# Altium schematic symbol library EVB_M1.SCHLIB: 7 symbols
Pins are listed as number, name and electrical type; pins without a type are passive.

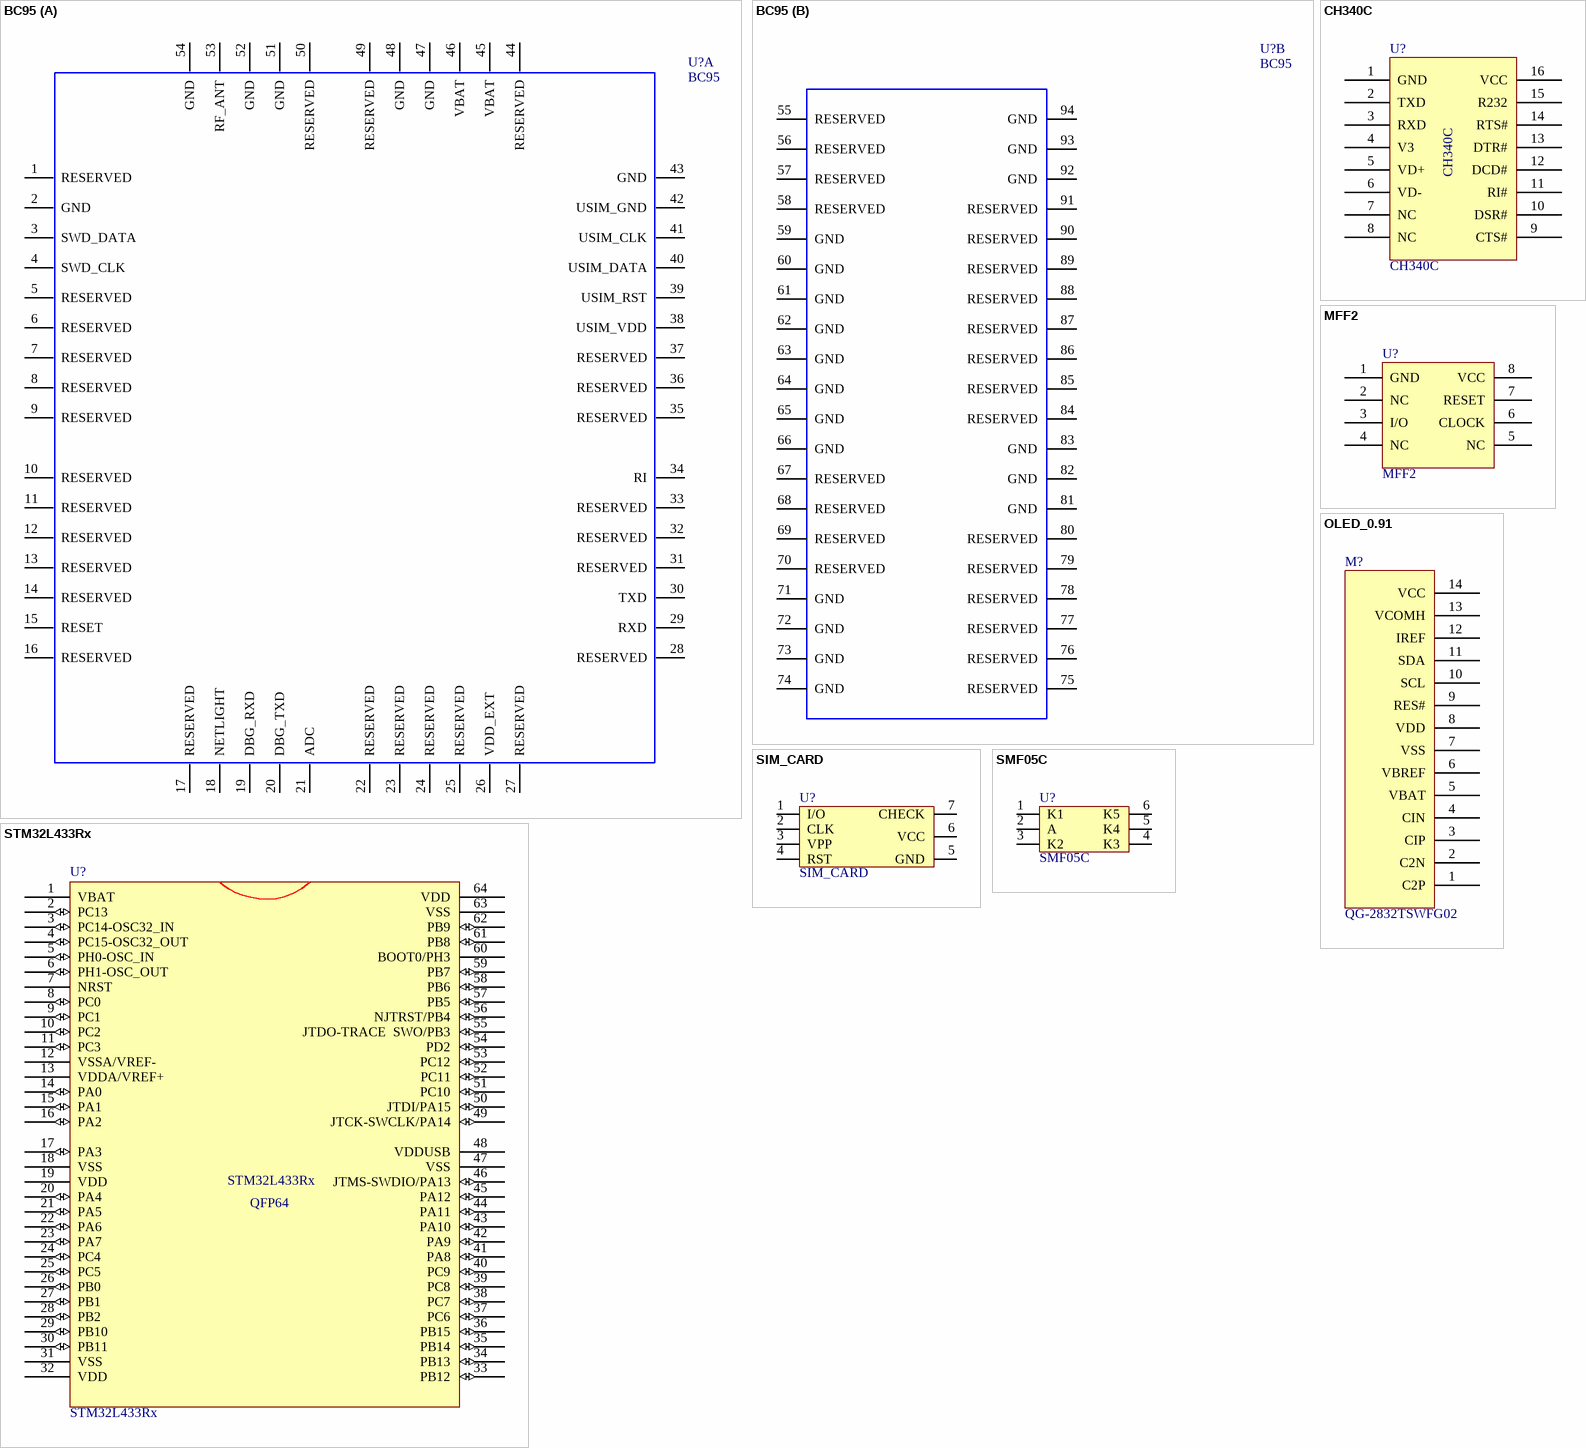
[diagram p0: symbols BC95 to STM32L433Rx]

## BC95
designator U?  (no BOM)
Value: *; Part Description: *; PCB DECAL: *
footprint BC95
part A pins: 1 RESERVED, 2 GND, 3 SWD_DATA, 4 SWD_CLK, 5 RESERVED, 6 RESERVED, 7 RESERVED, 8 RESERVED, 9 RESERVED, 10 RESERVED, 11 RESERVED, 12 RESERVED, 13 RESERVED, 14 RESERVED, 15 RESET, 16 RESERVED, 17 RESERVED, 18 NETLIGHT, 19 DBG_RXD, 20 DBG_TXD, 21 ADC, 22 RESERVED, 23 RESERVED, 24 RESERVED, 25 RESERVED, 26 VDD_EXT, 27 RESERVED, 28 RESERVED, 29 RXD, 30 TXD, 31 RESERVED, 32 RESERVED, 33 RESERVED, 34 RI, 35 RESERVED, 36 RESERVED, 37 RESERVED, 38 USIM_VDD, 39 USIM_RST, 40 USIM_DATA, 41 USIM_CLK, 42 USIM_GND, 43 GND, 44 RESERVED, 45 VBAT, 46 VBAT, 47 GND, 48 GND, 49 RESERVED, 50 RESERVED, 51 GND, 52 GND, 53 RF_ANT, 54 GND
part B pins: 55 RESERVED, 56 RESERVED, 57 RESERVED, 58 RESERVED, 59 GND, 60 GND, 61 GND, 62 GND, 63 GND, 64 GND, 65 GND, 66 GND, 67 RESERVED, 68 RESERVED, 69 RESERVED, 70 RESERVED, 71 GND, 72 GND, 73 GND, 74 GND, 75 RESERVED, 76 RESERVED, 77 RESERVED, 78 RESERVED, 79 RESERVED, 80 RESERVED, 81 GND, 82 GND, 83 GND, 84 RESERVED, 85 RESERVED, 86 RESERVED, 87 RESERVED, 88 RESERVED, 89 RESERVED, 90 RESERVED, 91 RESERVED, 92 GND, 93 GND, 94 GND
2 alternate drawings of the same symbol

## CH340C
designator U?
footprint SOP16_N
pins: 1 GND, 2 TXD, 3 RXD, 4 V3, 5 VD+, 6 VD-, 7 NC, 8 NC, 9 CTS#, 10 DSR#, 11 RI#, 12 DCD#, 13 DTR#, 14 RTS#, 15 R232, 16 VCC

## MFF2
designator U?  (no BOM)
footprint SIMMFF2
pins: 1 GND, 2 NC, 3 I/O, 4 NC, 5 NC, 6 CLOCK, 7 RESET, 8 VCC

## OLED_0.91
designator M?, comment QG-2832TSWFG02  (no BOM)
footprint QG-2832TSWFG02
pins: 1 C2P, 2 C2N, 3 CIP, 4 CIN, 5 VBAT, 6 VBREF, 7 VSS, 8 VDD, 9 RES#, 10 SCL, 11 SDA, 12 IREF, 13 VCOMH, 14 VCC

## SIM_CARD
designator U?  (no BOM)
手机SIM卡
footprint SIM1
pins: 1 I/O, 2 CLK, 3 VPP, 4 RST, 5 GND, 6 VCC, 7 CHECK

## SMF05C
designator U?
TVS
footprint SOT-363
pins: 1 K1, 2 A, 3 K2, 4 K3, 5 K4, 6 K5

## STM32L433Rx
designator U?  (no BOM)
超低功耗高性能ARM Cortex-M4 32-bit MCU+FPU 80MHz 100DMIPS
footprint LQFP64
pins: 1 VBAT, 2 PC13 (io), 3 PC14-OSC32_IN (io), 4 PC15-OSC32_OUT (io), 5 PH0-OSC_IN (io), 6 PH1-OSC_OUT (io), 7 NRST, 8 PC0 (io), 9 PC1 (io), 10 PC2 (io), 11 PC3 (io), 12 VSSA/VREF-, 13 VDDA/VREF+, 14 PA0 (io), 15 PA1 (io), 16 PA2 (io), 17 PA3 (io), 18 VSS, 19 VDD, 20 PA4 (io), 21 PA5 (io), 22 PA6 (io), 23 PA7 (io), 24 PC4 (io), 25 PC5 (io), 26 PB0 (io), 27 PB1 (io), 28 PB2 (io), 29 PB10 (io), 30 PB11 (io), 31 VSS, 32 VDD, 33 PB12 (io), 34 PB13 (io), 35 PB14 (io), 36 PB15 (io), 37 PC6 (io), 38 PC7 (io), 39 PC8 (io), 40 PC9 (io), 41 PA8 (io), 42 PA9 (io), 43 PA10 (io), 44 PA11 (io), 45 PA12 (io), 46 JTMS-SWDIO/PA13 (io), 47 VSS, 48 VDDUSB, 49 JTCK-SWCLK/PA14 (io), 50 JTDI/PA15 (io), 51 PC10 (io), 52 PC11 (io), 53 PC12 (io), 54 PD2 (io), 55 JTDO-TRACE  SWO/PB3 (io), 56 NJTRST/PB4 (io), 57 PB5 (io), 58 PB6 (io), 59 PB7 (io), 60 BOOT0/PH3, 61 PB8 (io), 62 PB9 (io), 63 VSS, 64 VDD
text: QFP64